# EAGLE library part JW-2FORM-A (library relay)
JW Series, Panasonic/NAIS
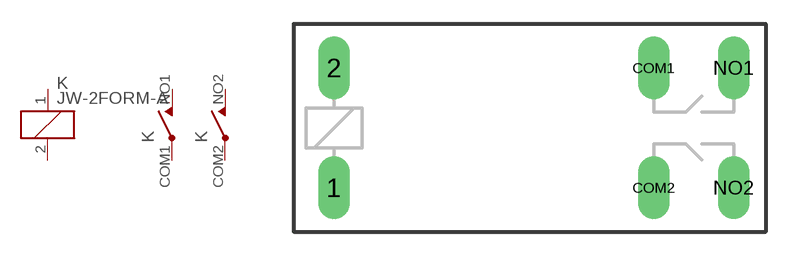
[diagram p51: symbol with the pads of JW-2FORM-A; footprint JW-2FORM-A]

Designator prefix K; gates G$1=K -A=S -B=S

## JW-2FORM-A  [JW-2FORM-A]
1  G$1:1  pas
2  G$1:2  pas
COM1  -A:COM  pas
COM2  -B:COM  pas
NO1  -A:NO  pas
NO2  -B:NO  pas

## Footprint JW-2FORM-A (pad centres in mm)
RELAY
drill 1.321 long: 1 0,-3.75; 2 0,3.75; COM1 20,3.75; COM2 20,-3.75; NO1 25,3.75; NO2 25,-3.75